# EAGLE library part HEADER-1X07 (library Header and Connector)
Header - 1X07
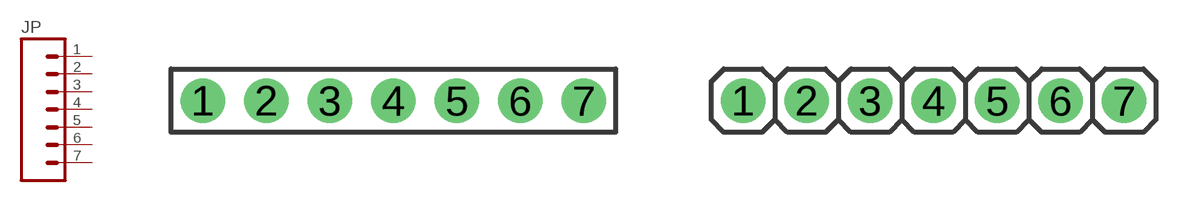
[diagram p2: symbol with the pads of HDR-F1X07; footprints HDR-F1X07, HDR-M1X07]

Designator prefix JP

## HEADER-1X07_(FEMALE) (CYTRON-PC: CN-PH-F140S; DESC: Female Header - 1x40 Ways; VALUE: 7/40 Ways)  [HDR-F1X07]
1  1  pas
2  2  pas
3  3  pas
4  4  pas
5  5  pas
6  6  pas
7  7  pas

## HEADER-1X07_(MALE) (CYTRON-PC: CN-PH-M140S; DESC: Male Header - 1x40 Ways; VALUE: 7/40 Ways)  [HDR-M1X07]
Pads as for HDR-F1X07

## Footprint HDR-F1X07 (pad centres in mm)
Female Header - 1X07
drill 1.016 pad 1.778: 1 0,0; 2 2.54,0; 3 5.08,0; 4 7.62,0; 5 10.16,0; 6 12.7,0; 7 15.24,0

## Footprint HDR-M1X07 (pad centres in mm)
Male Header - 1X07
drill 1.016 pad 1.778: 1 0,0; 2 2.54,0; 3 5.08,0; 4 7.62,0; 5 10.16,0; 6 12.7,0; 7 15.24,0